# Altium footprint library NodeMCU_PcbLib.PcbLib: 1 footprints
Each footprint in its own frame and in the unit in brackets; x right, y up, seen from the top. Pads: shape width x height; smd on the part's side, far side on the other; paste and mask are expansions set on the pad; w line width, h text height; cw(c..) or ccw(c..) is an arc to the next point about the centre after c.
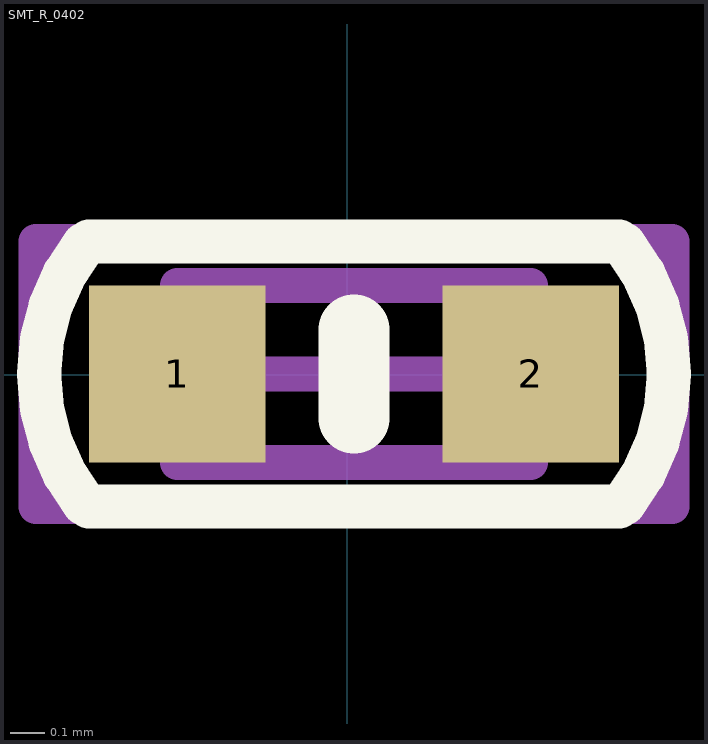
[diagram p0: the footprint, top view; thin cyan lines are the x and y axes]

## SMT_R_0402 [mil]
pads (2):
  rect 20x20 smd: 1(-19.24,0.07) 2(20.76,0.07)
Top Overlay:
  lines w5: -29.78,-14.57 cw(c-11.24,0.07) -29.78,14.7 ; -29.24,-14.93 30.76,-14.93 ; -29.24,15.07 30.76,15.07 ; 31.3,-14.57 ccw(c12.76,0.07) 31.3,14.7
  lines w8: 0.76,-4.93 0.76,5.07
Mechanical 13:
  lines w3.94: -19.24,-9.93 -19.24,10.07 20.76,10.07 20.76,-9.93 -19.24,-9.93
Mechanical 15:
  lines w3.94: -9.24,0.07 10.76,0.07 ; 0.76,-9.93 0.76,10.07 ; -35.24,-14.93 -35.24,15.07 36.76,15.07 36.76,-14.93 -35.24,-14.93
3D body "User Library-0402(1005M) Res.step": height 20.1, standoff 0, extent -19.24,-9.93 20.76,10.07